# Altium footprint library ICS-43432.PcbLib: 1 footprints
Each footprint in its own frame and in the unit in brackets; x right, y up, seen from the top. Pads: shape width x height; smd on the part's side, far side on the other; paste and mask are expansions set on the pad; w line width, h text height; cw(c..) or ccw(c..) is an arc to the next point about the centre after c.
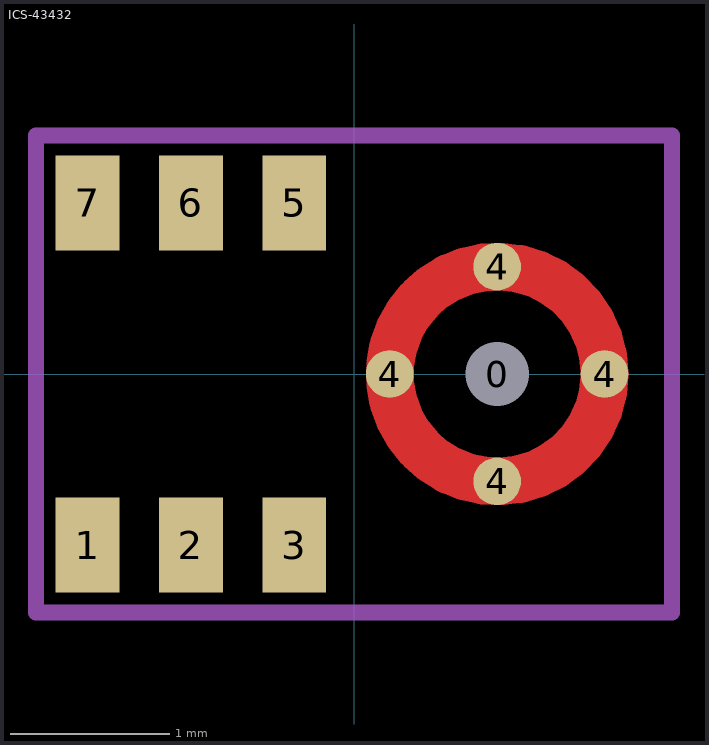
[diagram p0: the footprint, top view; thin cyan lines are the x and y axes]

## ICS-43432 [mm] "INVENSENSE MEMS DIGITAL MICROPHONE"
pads (11):
  round 0.3 hole 0.4 unplated mask+0.775: 0(0.9,0)
  rect 0.4x0.6 smd: 1(-1.675,-1.075) 2(-1.025,-1.075) 3(-0.375,-1.075) 5(-0.375,1.075) 6(-1.025,1.075) 7(-1.675,1.075)
  round 0.3 smd: 4(0.225,0) 4(0.9,-0.675) 4(1.575,0)
  round 0.3 smd paste+0: 4(0.9,0.675)
Top Layer:
  circle w0.3: c0.9,0 r0.675
Mechanical 13:
  lines w0.1: -2,-1.5 2,-1.5 2,1.5 -2,1.5 -2,-1.5
3D body: height 1, standoff 0, extent -2,-1.5 2,1.5